# Altium schematic symbol library MX23A18NF1.SchLib: 1 symbol
Pins are listed as number, name and electrical type; pins without a type are passive.

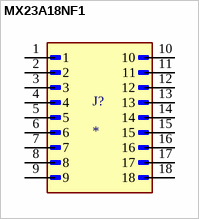
[diagram p0: symbol MX23A18NF1]

## MX23A18NF1
designator J?
MX23A18NF1; MF: JAE Electronics; SnapEDA_Link: https://www.snapeda.com/parts/MX23A18NF1/JAE+Electronics/view-part/?ref=snap; Package: None; Value: *; MP: MX23A18NF1; Check_prices: https://www.snapeda.com/parts/MX23A18NF1/JAE+Electronics/view-part/?ref=eda
footprint JAE_MX23A18NF1
pins: 1, 2, 3, 4, 5, 6, 7, 8, 9, 10, 11, 12, 13, 14, 15, 16, 17, 18